# EAGLE library part MAX98357AEWL+T (library MAX98357AEWL+T)
Audio Amplifiers MAX98357AEWL+T Source: Datasheet <https://datasheets.maximintegrated.com/en/ds/MAX98357A-MAX98357B.pdf>
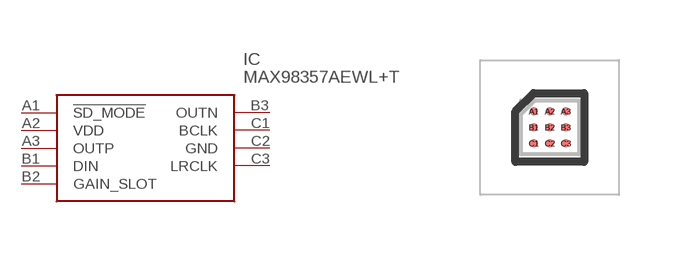
[diagram p0: symbol with the pads of BGA9C40P3X3_144X135X69; footprint BGA9C40P3X3_144X135X69]

Designator prefix IC

## MAX98357AEWL+T (Arrow_Part_Number: MAX98357AEWL+T; Description: Audio Amplifiers MAX98357AEWL+T; Height: 0.69mm; Manufacturer_Name: Maxim Integrated; Manufacturer_Part_Number: MAX98357AEWL+T; Mouser_Part_Number: 700-MAX98357AEWL+T; Mouser_Price-Stock: https://www.mouser.co.uk/ProductDetail/Maxim-Integrated/MAX98357AEWL%2bT?qs=ZrtEiRxEuI4mjqOyZP4d0A%3D%3D)  [BGA9C40P3X3_144X135X69]
A1  !SD_MODE
A2  VDD
A3  OUTP
B1  DIN
B2  GAIN_SLOT
B3  OUTN
C1  BCLK
C2  GND
C3  LRCLK

## Footprint BGA9C40P3X3_144X135X69 (pad centres in mm)
WLP 9
smd 0.216 x 0.216: A1 -0.4,0.4; A2 0,0.4; A3 0.4,0.4; B1 -0.4,0; B2 0,0; B3 0.4,0; C1 -0.4,-0.4; C2 0,-0.4; C3 0.4,-0.4